# Altium footprint library KF2EDGK5.0.PcbLib: 29 footprints (part 1 of 2)
Each footprint in its own frame and in the unit in brackets; x right, y up, seen from the top. Pads: shape width x height; smd on the part's side, far side on the other; paste and mask are expansions set on the pad; w line width, h text height; cw(c..) or ccw(c..) is an arc to the next point about the centre after c.
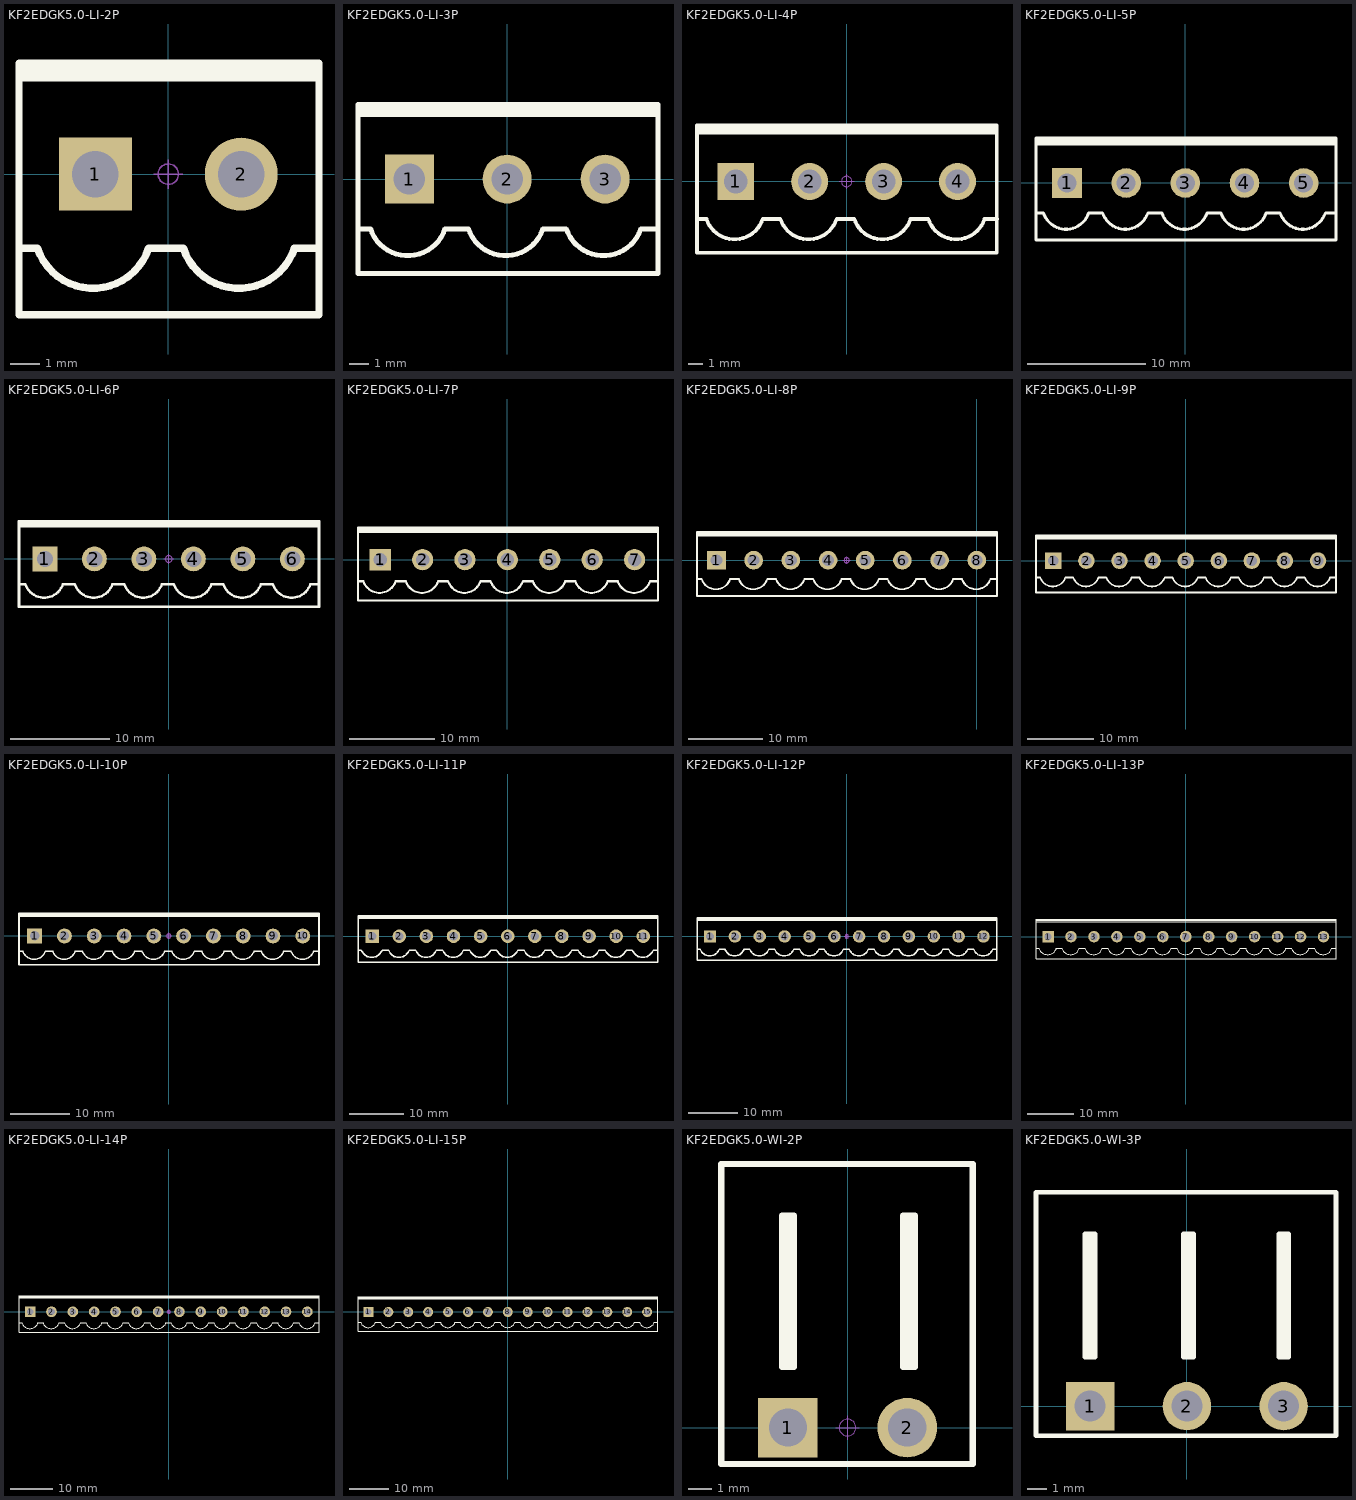
[diagram p0: the footprints below, top view; thin cyan lines are the x and y axes]

## KF2EDGK5.0-LI-2P [mm] "立插端子"
pads (2):
  rect 2.5x2.5 hole 1.6: 1(-2.5,0)
  round 2.5 hole 1.6: 2(2.5,0)
Top Overlay:
  lines w0.254: -5.12,-2.54 -4.485,-2.54 ccw(c-2.58,-1.905) -0.675,-2.54 0.515,-2.54 ccw(c2.42,-1.905) 4.325,-2.54 5.167,-2.54 ; -5.12,3.302 5.167,3.302 ; -5.12,3.556 5.167,3.556 ; -5.12,-4.826 -5.12,3.81 5.167,3.81 5.167,-4.826 -5.12,-4.826
Mechanical 15:
  circle w0.05: c0,0 r0.35
  lines w0.05: -0.5,0 0.5,0 ; 0,-0.5 0,0.5
3D body "KF2EDGK-1P.STEP": height 11.25, standoff -2.95, extent -5.04,-4.75 0.04,3.75
3D body "KF2EDGK-1P.STEP": height 11.25, standoff -2.95, extent -0.04,-4.75 5.04,3.75

## KF2EDGK5.0-LI-3P [mm] "立插端子"
pads (3):
  rect 2.5x2.5 hole 1.6: 1(-5,0)
  round 2.5 hole 1.6: 2(0,0) 3(5,0)
Top Overlay:
  lines w0.254: -7.62,-2.54 -6.985,-2.54 ccw(c-5.08,-1.905) -3.175,-2.54 -1.985,-2.54 ccw(c-0.08,-1.905) 1.825,-2.54 3.015,-2.54 ccw(c4.92,-1.905) 6.825,-2.54 7.667,-2.54 ; -7.62,3.302 7.7,3.302 ; -7.62,3.556 7.7,3.556 ; -7.62,-4.826 7.7,-4.826 7.7,3.81 -7.62,3.81 -7.62,-4.826
Mechanical 15:
  circle w0.05: c0,0 r0.35
  lines w0.05: -0.5,0 0.5,0 ; 0,-0.5 0,0.5
3D body "KF2EDGK-1P.STEP": height 11.25, standoff -2.95, extent -7.54,-4.75 -2.46,3.75
3D body "KF2EDGK-1P.STEP": height 11.25, standoff -2.95, extent -2.54,-4.75 2.54,3.75
3D body "KF2EDGK-1P.STEP": height 11.25, standoff -2.95, extent 2.46,-4.75 7.54,3.75

## KF2EDGK5.0-LI-4P [mm] "立插端子"
pads (4):
  rect 2.5x2.5 hole 1.6: 1(-7.5,0)
  round 2.5 hole 1.6: 2(-2.5,0) 3(2.5,0) 4(7.5,0)
Top Overlay:
  lines w0.254: -10.12,-2.54 -9.485,-2.54 ccw(c-7.58,-1.905) -5.675,-2.54 -4.485,-2.54 ccw(c-2.58,-1.905) -0.675,-2.54 0.515,-2.54 ccw(c2.42,-1.905) 4.325,-2.54 5.515,-2.54 ccw(c7.42,-1.905) 9.325,-2.54 10.167,-2.54 ; -10.12,3.302 10.153,3.302 ; -10.12,3.556 10.153,3.556 ; -10.12,-4.826 -10.12,3.81 10.153,3.81 10.153,-4.826 -10.12,-4.826
Mechanical 15:
  circle w0.05: c0,0 r0.35
  lines w0.05: -0.5,0 0.5,0 ; 0,-0.5 0,0.5
3D body "KF2EDGK-1P.STEP": height 11.25, standoff -2.95, extent 4.96,-4.75 10.04,3.75
3D body "KF2EDGK-1P.STEP": height 11.25, standoff -2.95, extent -0.04,-4.75 5.04,3.75
3D body "KF2EDGK-1P.STEP": height 11.25, standoff -2.95, extent -5.04,-4.75 0.04,3.75
3D body "KF2EDGK-1P.STEP": height 11.25, standoff -2.95, extent -10.04,-4.75 -4.96,3.75

## KF2EDGK5.0-LI-5P [mm] "立插端子"
pads (5):
  rect 2.5x2.5 hole 1.6: 1(-10,0)
  round 2.5 hole 1.6: 2(-5,0) 3(0,0) 4(5,0) 5(10,0)
Top Overlay:
  lines w0.254: -12.62,-2.54 -11.985,-2.54 ccw(c-10.08,-1.905) -8.175,-2.54 -6.985,-2.54 ccw(c-5.08,-1.905) -3.175,-2.54 -1.985,-2.54 ccw(c-0.08,-1.905) 1.825,-2.54 3.015,-2.54 ccw(c4.92,-1.905) 6.825,-2.54 8.015,-2.54 ccw(c9.92,-1.905) 11.825,-2.54 12.667,-2.54 ; -12.62,3.302 12.606,3.302 ; -12.62,3.556 12.733,3.556 ; -12.62,-4.826 12.733,-4.826 12.733,3.81 -12.62,3.81 -12.62,-4.826
Mechanical 15:
  circle w0.05: c0,0 r0.35
  lines w0.05: -0.5,0 0.5,0 ; 0,-0.5 0,0.5
3D body "KF2EDGK-1P.STEP": height 11.25, standoff -2.95, extent 7.46,-4.75 12.54,3.75
3D body "KF2EDGK-1P.STEP": height 11.25, standoff -2.95, extent 2.46,-4.75 7.54,3.75
3D body "KF2EDGK-1P.STEP": height 11.25, standoff -2.95, extent -2.54,-4.75 2.54,3.75
3D body "KF2EDGK-1P.STEP": height 11.25, standoff -2.95, extent -7.54,-4.75 -2.46,3.75
3D body "KF2EDGK-1P.STEP": height 11.25, standoff -2.95, extent -12.54,-4.75 -7.46,3.75

## KF2EDGK5.0-LI-6P [mm] "立插端子"
pads (6):
  rect 2.5x2.5 hole 1.6: 1(-12.5,0)
  round 2.5 hole 1.6: 2(-7.5,0) 3(-2.5,0) 4(2.5,0) 5(7.5,0) 6(12.5,0)
Top Overlay:
  lines w0.254: -15.12,-2.54 -14.485,-2.54 ccw(c-12.58,-1.905) -10.675,-2.54 -9.485,-2.54 ccw(c-7.58,-1.905) -5.675,-2.54 ; -15.12,3.302 15.186,3.302 ; -15.12,3.556 15.186,3.556 ; -5.675,-2.54 -4.485,-2.54 ccw(c-2.58,-1.905) -0.675,-2.54 0.515,-2.54 ccw(c2.42,-1.905) 4.325,-2.54 5.515,-2.54 ccw(c7.42,-1.905) 9.325,-2.54 10.515,-2.54 ccw(c12.42,-1.905) 14.325,-2.54 15.167,-2.54 ; -15.12,-4.826 -15.12,3.81 15.186,3.81 15.186,-4.826 -15.12,-4.826
Mechanical 15:
  circle w0.05: c0,0 r0.35
  lines w0.05: -0.5,0 0.5,0 ; 0,-0.5 0,0.5
3D body "KF2EDGK-1P.STEP": height 11.25, standoff -2.95, extent 9.96,-4.75 15.04,3.75
3D body "KF2EDGK-1P.STEP": height 11.25, standoff -2.95, extent 4.96,-4.75 10.04,3.75
3D body "KF2EDGK-1P.STEP": height 11.25, standoff -2.95, extent -0.04,-4.75 5.04,3.75
3D body "KF2EDGK-1P.STEP": height 11.25, standoff -2.95, extent -5.04,-4.75 0.04,3.75
3D body "KF2EDGK-1P.STEP": height 11.25, standoff -2.95, extent -10.04,-4.75 -4.96,3.75
3D body "KF2EDGK-1P.STEP": height 11.25, standoff -2.95, extent -15.04,-4.75 -9.96,3.75

## KF2EDGK5.0-LI-7P [mm] "立插端子"
pads (7):
  rect 2.5x2.5 hole 1.6: 1(-15,0)
  round 2.5 hole 1.6: 2(-10,0) 3(-5,0) 4(0,0) 5(5,0) 6(10,0) 7(15,0)
Top Overlay:
  lines w0.254: -17.62,-2.54 -16.985,-2.54 ccw(c-15.08,-1.905) -13.175,-2.54 -11.985,-2.54 ccw(c-10.08,-1.905) -8.175,-2.54 -6.985,-2.54 ccw(c-5.08,-1.905) -3.175,-2.54 -1.985,-2.54 ccw(c-0.08,-1.905) 1.825,-2.54 3.015,-2.54 ccw(c4.92,-1.905) 6.825,-2.54 8.015,-2.54 ccw(c9.92,-1.905) 11.825,-2.54 13.015,-2.54 ccw(c14.92,-1.905) 16.825,-2.54 17.667,-2.54 ; -17.62,3.302 17.766,3.302 ; -17.62,3.556 17.766,3.556 ; -17.62,-4.826 -17.62,3.81 17.766,3.81 17.766,-4.826 -17.62,-4.826
Mechanical 15:
  circle w0.05: c0,0 r0.35
  lines w0.05: -0.5,0 0.5,0 ; 0,-0.5 0,0.5
3D body "KF2EDGK-1P.STEP": height 11.25, standoff -2.95, extent -17.54,-4.75 -12.46,3.75
3D body "KF2EDGK-1P.STEP": height 11.25, standoff -2.95, extent -7.54,-4.75 -2.46,3.75
3D body "KF2EDGK-1P.STEP": height 11.25, standoff -2.95, extent -12.54,-4.75 -7.46,3.75
3D body "KF2EDGK-1P.STEP": height 11.25, standoff -2.95, extent -2.54,-4.75 2.54,3.75
3D body "KF2EDGK-1P.STEP": height 11.25, standoff -2.95, extent 2.46,-4.75 7.54,3.75
3D body "KF2EDGK-1P.STEP": height 11.25, standoff -2.95, extent 7.46,-4.75 12.54,3.75
3D body "KF2EDGK-1P.STEP": height 11.25, standoff -2.95, extent 12.46,-4.75 17.54,3.75

## KF2EDGK5.0-LI-8P [mm] "立插端子"
pads (8):
  rect 2.5x2.5 hole 1.6: 1(-35,0)
  round 2.5 hole 1.6: 2(-30,0) 3(-25,0) 4(-20,0) 5(-15,0) 6(-10,0) 7(-5,0) 8(0,0)
Top Overlay:
  lines w0.254: -37.62,-2.54 -36.985,-2.54 ccw(c-35.08,-1.905) -33.175,-2.54 -31.985,-2.54 ccw(c-30.08,-1.905) -28.175,-2.54 -26.985,-2.54 ccw(c-25.08,-1.905) -23.175,-2.54 -21.985,-2.54 ccw(c-20.08,-1.905) -18.175,-2.54 -16.985,-2.54 ccw(c-15.08,-1.905) -13.175,-2.54 -11.985,-2.54 ccw(c-10.08,-1.905) -8.175,-2.54 -6.985,-2.54 ccw(c-5.08,-1.905) -3.175,-2.54 -1.985,-2.54 ccw(c-0.08,-1.905) 1.825,-2.54 2.667,-2.54 ; -37.62,3.302 2.592,3.302 ; -37.62,3.556 2.719,3.556 ; -37.62,-4.826 2.719,-4.826 2.719,3.81 -37.62,3.81 -37.62,-4.826
Mechanical 15:
  circle w0.05: c-17.5,0 r0.35
  lines w0.05: -18,0 -17,0 ; -17.5,-0.5 -17.5,0.5
3D body "KF2EDGK-1P.STEP": height 11.25, standoff -2.95, extent -2.54,-4.75 2.54,3.75
3D body "KF2EDGK-1P.STEP": height 11.25, standoff -2.95, extent -7.54,-4.75 -2.46,3.75
3D body "KF2EDGK-1P.STEP": height 11.25, standoff -2.95, extent -12.54,-4.75 -7.46,3.75
3D body "KF2EDGK-1P.STEP": height 11.25, standoff -2.95, extent -17.54,-4.75 -12.46,3.75
3D body "KF2EDGK-1P.STEP": height 11.25, standoff -2.95, extent -22.54,-4.75 -17.46,3.75
3D body "KF2EDGK-1P.STEP": height 11.25, standoff -2.95, extent -27.54,-4.75 -22.46,3.75
3D body "KF2EDGK-1P.STEP": height 11.25, standoff -2.95, extent -32.54,-4.75 -27.46,3.75
3D body "KF2EDGK-1P.STEP": height 11.25, standoff -2.95, extent -37.54,-4.75 -32.46,3.75

## KF2EDGK5.0-LI-9P [mm] "立插端子"
pads (9):
  rect 2.5x2.5 hole 1.6: 1(-20,0)
  round 2.5 hole 1.6: 2(-15,0) 3(-10,0) 4(-5,0) 5(0,0) 6(5,0) 7(10,0) 8(15,0) 9(20,0)
Top Overlay:
  lines w0.254: -22.62,-2.54 -21.985,-2.54 ccw(c-20.08,-1.905) -18.175,-2.54 -16.985,-2.54 ccw(c-15.08,-1.905) -13.175,-2.54 -11.985,-2.54 ccw(c-10.08,-1.905) -8.175,-2.54 -6.985,-2.54 ccw(c-5.08,-1.905) -3.175,-2.54 -1.985,-2.54 ccw(c-0.08,-1.905) 1.825,-2.54 3.015,-2.54 ccw(c4.92,-1.905) 6.825,-2.54 8.015,-2.54 ccw(c9.92,-1.905) 11.825,-2.54 13.015,-2.54 ccw(c14.92,-1.905) 16.825,-2.54 ; -22.62,3.302 17.592,3.302 ; -22.62,3.556 17.719,3.556 ; 17.413,3.302 22.719,3.302 ; 17.5,3.556 22.719,3.556 ; 17.5,3.81 22.719,3.81 22.719,-4.826 17.719,-4.826 -22.62,-4.826 -22.62,3.81 17.719,3.81 ; 17.667,-2.54 16.825,-2.54 ; 22.667,-2.54 21.825,-2.54 cw(c19.92,-1.905) 18.015,-2.54 16.825,-2.54
Mechanical 15:
  circle w0.05: c0,0 r0.35
  lines w0.05: -0.5,0 0.5,0 ; 0,-0.5 0,0.5
3D body "KF2EDGK-1P.STEP": height 11.25, standoff -2.95, extent 17.46,-4.75 22.54,3.75
3D body "KF2EDGK-1P.STEP": height 11.25, standoff -2.95, extent 12.46,-4.75 17.54,3.75
3D body "KF2EDGK-1P.STEP": height 11.25, standoff -2.95, extent 7.46,-4.75 12.54,3.75
3D body "KF2EDGK-1P.STEP": height 11.25, standoff -2.95, extent 2.46,-4.75 7.54,3.75
3D body "KF2EDGK-1P.STEP": height 11.25, standoff -2.95, extent -2.54,-4.75 2.54,3.75
3D body "KF2EDGK-1P.STEP": height 11.25, standoff -2.95, extent -7.54,-4.75 -2.46,3.75
3D body "KF2EDGK-1P.STEP": height 11.25, standoff -2.95, extent -12.54,-4.75 -7.46,3.75
3D body "KF2EDGK-1P.STEP": height 11.25, standoff -2.95, extent -17.54,-4.75 -12.46,3.75
3D body "KF2EDGK-1P.STEP": height 11.25, standoff -2.95, extent -22.54,-4.75 -17.46,3.75

## KF2EDGK5.0-LI-10P [mm] "立插端子"
pads (10):
  rect 2.5x2.5 hole 1.6: 1(-22.5,0)
  round 2.5 hole 1.6: 2(-17.5,0) 3(-12.5,0) 4(-7.5,0) 5(-2.5,0) 6(2.5,0) 7(7.5,0) 8(12.5,0) 9(17.5,0) 10(22.5,0)
Top Overlay:
  lines w0.254: -25.12,-2.54 -24.485,-2.54 ccw(c-22.58,-1.905) -20.675,-2.54 -19.485,-2.54 ccw(c-17.58,-1.905) -15.675,-2.54 -14.485,-2.54 ccw(c-12.58,-1.905) -10.675,-2.54 -9.485,-2.54 ccw(c-7.58,-1.905) -5.675,-2.54 ; -25.12,3.302 15.092,3.302 ; -25.12,3.556 15.219,3.556 ; -5.675,-2.54 -4.485,-2.54 ccw(c-2.58,-1.905) -0.675,-2.54 0.515,-2.54 ccw(c2.42,-1.905) 4.325,-2.54 5.515,-2.54 ccw(c7.42,-1.905) 9.325,-2.54 10.515,-2.54 ccw(c12.42,-1.905) 14.325,-2.54 ; 14.913,3.302 20.219,3.302 ; 15,3.556 20.219,3.556 ; 15,3.81 20.219,3.81 ; 15.167,-2.54 14.325,-2.54 ; 15.219,3.81 -25.12,3.81 -25.12,-4.826 15.219,-4.826 20.219,-4.826 25.219,-4.826 25.219,3.81 20,3.81 ; 19.913,3.302 25.219,3.302 ; 20,3.556 25.219,3.556 ; 25.167,-2.54 24.325,-2.54 cw(c22.42,-1.905) 20.515,-2.54 19.325,-2.54 ; 14.325,-2.54 15.515,-2.54 ccw(c17.42,-1.905) 19.325,-2.54 ; 19.325,-2.54 20.167,-2.54 19.325,-2.54
Mechanical 15:
  circle w0.05: c0,0 r0.35
  lines w0.05: -0.5,0 0.5,0 ; 0,-0.5 0,0.5
3D body "KF2EDGK-1P.STEP": height 11.25, standoff -2.95, extent 19.96,-4.75 25.04,3.75
3D body "KF2EDGK-1P.STEP": height 11.25, standoff -2.95, extent -25.04,-4.75 -19.96,3.75
3D body "KF2EDGK-1P.STEP": height 11.25, standoff -2.95, extent -20.04,-4.75 -14.96,3.75
3D body "KF2EDGK-1P.STEP": height 11.25, standoff -2.95, extent -15.04,-4.75 -9.96,3.75
3D body "KF2EDGK-1P.STEP": height 11.25, standoff -2.95, extent -10.04,-4.75 -4.96,3.75
3D body "KF2EDGK-1P.STEP": height 11.25, standoff -2.95, extent -5.04,-4.75 0.04,3.75
3D body "KF2EDGK-1P.STEP": height 11.25, standoff -2.95, extent -0.04,-4.75 5.04,3.75
3D body "KF2EDGK-1P.STEP": height 11.25, standoff -2.95, extent 4.96,-4.75 10.04,3.75
3D body "KF2EDGK-1P.STEP": height 11.25, standoff -2.95, extent 9.96,-4.75 15.04,3.75
3D body "KF2EDGK-1P.STEP": height 11.25, standoff -2.95, extent 14.96,-4.75 20.04,3.75

## KF2EDGK5.0-LI-11P [mm] "立插端子"
pads (11):
  rect 2.5x2.5 hole 1.6: 1(-25,0)
  round 2.5 hole 1.6: 2(-20,0) 3(-15,0) 4(-10,0) 5(-5,0) 6(0,0) 7(5,0) 8(10,0) 9(15,0) 10(20,0) 11(25,0)
Top Overlay:
  lines w0.254: -27.62,-2.54 -26.985,-2.54 ccw(c-25.08,-1.905) -23.175,-2.54 -21.985,-2.54 ccw(c-20.08,-1.905) -18.175,-2.54 -16.985,-2.54 ccw(c-15.08,-1.905) -13.175,-2.54 -11.985,-2.54 ccw(c-10.08,-1.905) -8.175,-2.54 -6.985,-2.54 ccw(c-5.08,-1.905) -3.175,-2.54 -1.985,-2.54 ccw(c-0.08,-1.905) 1.825,-2.54 3.015,-2.54 ccw(c4.92,-1.905) 6.825,-2.54 8.015,-2.54 ccw(c9.92,-1.905) 11.825,-2.54 ; -27.62,3.302 12.592,3.302 ; -27.62,3.556 12.719,3.556 ; 12.413,3.302 17.719,3.302 ; 12.5,3.556 17.719,3.556 ; 12.5,3.81 17.719,3.81 ; 12.667,-2.54 11.825,-2.54 ; 12.719,3.81 -27.62,3.81 -27.62,-4.826 12.719,-4.826 17.719,-4.826 22.719,-4.826 27.719,-4.826 27.719,3.81 22.5,3.81 ; 17.413,3.302 22.719,3.302 ; 17.5,3.556 22.719,3.556 ; 17.5,3.81 22.719,3.81 ; 22.413,3.302 27.719,3.302 ; 22.5,3.556 27.719,3.556 ; 27.667,-2.54 26.825,-2.54 cw(c24.92,-1.905) 23.015,-2.54 21.825,-2.54 ; 11.825,-2.54 13.015,-2.54 ccw(c14.92,-1.905) 16.825,-2.54 ; 16.825,-2.54 17.667,-2.54 16.825,-2.54 ; 16.825,-2.54 18.015,-2.54 ccw(c19.92,-1.905) 21.825,-2.54 ; 21.825,-2.54 22.667,-2.54 ; 21.825,-2.54 22.667,-2.54 ; 21.825,-2.54 22.667,-2.54
Mechanical 15:
  circle w0.05: c0,0 r0.35
  lines w0.05: -0.5,0 0.5,0 ; 0,-0.5 0,0.5
3D body "KF2EDGK-1P.STEP": height 11.25, standoff -2.95, extent 22.46,-4.75 27.54,3.75
3D body "KF2EDGK-1P.STEP": height 11.25, standoff -2.95, extent 12.46,-4.75 17.54,3.75
3D body "KF2EDGK-1P.STEP": height 11.25, standoff -2.95, extent 7.46,-4.75 12.54,3.75
3D body "KF2EDGK-1P.STEP": height 11.25, standoff -2.95, extent 2.46,-4.75 7.54,3.75
3D body "KF2EDGK-1P.STEP": height 11.25, standoff -2.95, extent -2.54,-4.75 2.54,3.75
3D body "KF2EDGK-1P.STEP": height 11.25, standoff -2.95, extent -7.54,-4.75 -2.46,3.75
3D body "KF2EDGK-1P.STEP": height 11.25, standoff -2.95, extent -12.54,-4.75 -7.46,3.75
3D body "KF2EDGK-1P.STEP": height 11.25, standoff -2.95, extent -17.54,-4.75 -12.46,3.75
3D body "KF2EDGK-1P.STEP": height 11.25, standoff -2.95, extent -22.54,-4.75 -17.46,3.75
3D body "KF2EDGK-1P.STEP": height 11.25, standoff -2.95, extent -27.54,-4.75 -22.46,3.75
3D body "KF2EDGK-1P.STEP": height 11.25, standoff -2.95, extent 17.46,-4.75 22.54,3.75

## KF2EDGK5.0-LI-12P [mm] "立插端子"
pads (12):
  rect 2.5x2.5 hole 1.6: 1(-27.5,0)
  round 2.5 hole 1.6: 2(-22.5,0) 3(-17.5,0) 4(-12.5,0) 5(-7.5,0) 6(-2.5,0) 7(2.5,0) 8(7.5,0) 9(12.5,0) 10(17.5,0) 11(22.5,0) 12(27.5,0)
Top Overlay:
  lines w0.254: -30.12,-2.54 -29.485,-2.54 ccw(c-27.58,-1.905) -25.675,-2.54 -24.485,-2.54 ccw(c-22.58,-1.905) -20.675,-2.54 -19.485,-2.54 ccw(c-17.58,-1.905) -15.675,-2.54 -14.485,-2.54 ccw(c-12.58,-1.905) -10.675,-2.54 -9.485,-2.54 ccw(c-7.58,-1.905) -5.675,-2.54 ; -30.12,3.302 10.092,3.302 ; -30.12,3.556 10.219,3.556 ; -5.675,-2.54 -4.485,-2.54 ccw(c-2.58,-1.905) -0.675,-2.54 0.515,-2.54 ccw(c2.42,-1.905) 4.325,-2.54 5.515,-2.54 ccw(c7.42,-1.905) 9.325,-2.54 ; 9.913,3.302 15.219,3.302 ; 10,3.556 15.219,3.556 ; 10,3.81 15.219,3.81 ; 10.167,-2.54 9.325,-2.54 ; 10.219,3.81 -30.12,3.81 -30.12,-4.826 10.219,-4.826 15.219,-4.826 20.219,-4.826 25.219,-4.826 30.219,-4.826 30.219,3.81 25,3.81 ; 14.913,3.302 20.219,3.302 ; 15,3.556 20.219,3.556 ; 15,3.81 20.219,3.81 ; 19.913,3.302 25.219,3.302 ; 20,3.556 25.219,3.556 ; 20,3.81 25.219,3.81 ; 24.913,3.302 30.219,3.302 ; 25,3.556 30.219,3.556 ; 30.167,-2.54 29.325,-2.54 cw(c27.42,-1.905) 25.515,-2.54 24.325,-2.54 ; 9.325,-2.54 10.515,-2.54 ccw(c12.42,-1.905) 14.325,-2.54 ; 14.325,-2.54 15.515,-2.54 ccw(c17.42,-1.905) 19.325,-2.54 ; 14.325,-2.54 15.167,-2.54 14.325,-2.54 ; 19.325,-2.54 20.515,-2.54 ccw(c22.42,-1.905) 24.325,-2.54 ; 19.325,-2.54 20.167,-2.54 19.325,-2.54 ; 24.325,-2.54 25.167,-2.54 24.325,-2.54
Mechanical 15:
  circle w0.05: c0,0 r0.35
  lines w0.05: -0.5,0 0.5,0 ; 0,-0.5 0,0.5
3D body "KF2EDGK-1P.STEP": height 11.25, standoff -2.95, extent 24.96,-4.75 30.04,3.75
3D body "KF2EDGK-1P.STEP": height 11.25, standoff -2.95, extent 19.96,-4.75 25.04,3.75
3D body "KF2EDGK-1P.STEP": height 11.25, standoff -2.95, extent 14.96,-4.75 20.04,3.75
3D body "KF2EDGK-1P.STEP": height 11.25, standoff -2.95, extent 9.96,-4.75 15.04,3.75
3D body "KF2EDGK-1P.STEP": height 11.25, standoff -2.95, extent 4.96,-4.75 10.04,3.75
3D body "KF2EDGK-1P.STEP": height 11.25, standoff -2.95, extent -0.04,-4.75 5.04,3.75
3D body "KF2EDGK-1P.STEP": height 11.25, standoff -2.95, extent -5.04,-4.75 0.04,3.75
3D body "KF2EDGK-1P.STEP": height 11.25, standoff -2.95, extent -10.04,-4.75 -4.96,3.75
3D body "KF2EDGK-1P.STEP": height 11.25, standoff -2.95, extent -15.04,-4.75 -9.96,3.75
3D body "KF2EDGK-1P.STEP": height 11.25, standoff -2.95, extent -20.04,-4.75 -14.96,3.75
3D body "KF2EDGK-1P.STEP": height 11.25, standoff -2.95, extent -25.04,-4.75 -19.96,3.75
3D body "KF2EDGK-1P.STEP": height 11.25, standoff -2.95, extent -30.04,-4.75 -24.96,3.75

## KF2EDGK5.0-LI-13P [mm] "立插端子"
pads (13):
  rect 2.5x2.5 hole 1.6: 1(-30,0)
  round 2.5 hole 1.6: 2(-25,0) 3(-20,0) 4(-15,0) 5(-10,0) 6(-5,0) 7(0,0) 8(5,0) 9(10,0) 10(15,0) 11(20,0) 12(25,0) 13(30,0)
Top Overlay:
  lines w0.254: -32.62,-2.54 -31.985,-2.54 ccw(c-30.08,-1.905) -28.175,-2.54 -26.985,-2.54 ccw(c-25.08,-1.905) -23.175,-2.54 -21.985,-2.54 ccw(c-20.08,-1.905) -18.175,-2.54 -16.985,-2.54 ccw(c-15.08,-1.905) -13.175,-2.54 -11.985,-2.54 ccw(c-10.08,-1.905) -8.175,-2.54 -6.985,-2.54 ccw(c-5.08,-1.905) -3.175,-2.54 -1.985,-2.54 ccw(c-0.08,-1.905) 1.825,-2.54 3.015,-2.54 ccw(c4.92,-1.905) 6.825,-2.54 ; -32.62,3.302 7.592,3.302 ; -32.62,3.556 7.719,3.556 ; 7.413,3.302 12.719,3.302 ; 7.5,3.556 12.719,3.556 ; 7.5,3.81 12.719,3.81 ; 7.667,-2.54 6.825,-2.54 ; 7.719,3.81 -32.62,3.81 -32.62,-4.826 7.719,-4.826 12.719,-4.826 17.719,-4.826 22.719,-4.826 27.719,-4.826 32.719,-4.826 32.719,3.81 27.5,3.81 ; 12.413,3.302 17.719,3.302 ; 12.5,3.556 17.719,3.556 ; 12.5,3.81 17.719,3.81 ; 17.413,3.302 22.719,3.302 ; 17.5,3.556 22.719,3.556 ; 17.5,3.81 22.719,3.81 ; 22.413,3.302 27.719,3.302 ; 22.5,3.556 27.719,3.556 ; 22.5,3.81 27.719,3.81 ; 27.413,3.302 32.719,3.302 ; 27.5,3.556 32.719,3.556 ; 32.667,-2.54 31.825,-2.54 cw(c29.92,-1.905) 28.015,-2.54 26.825,-2.54 ; 6.825,-2.54 8.015,-2.54 ccw(c9.92,-1.905) 11.825,-2.54 ; 11.825,-2.54 13.015,-2.54 ccw(c14.92,-1.905) 16.825,-2.54 ; 11.825,-2.54 12.667,-2.54 11.825,-2.54 ; 16.825,-2.54 18.015,-2.54 ccw(c19.92,-1.905) 21.825,-2.54 ; 16.825,-2.54 17.667,-2.54 16.825,-2.54 ; 21.825,-2.54 23.015,-2.54 ccw(c24.92,-1.905) 26.825,-2.54 ; 21.825,-2.54 22.667,-2.54 21.825,-2.54 ; 26.825,-2.54 27.667,-2.54 26.825,-2.54
Mechanical 15:
  circle w0.05: c0,0 r0.35
  lines w0.05: -0.5,0 0.5,0 ; 0,-0.5 0,0.5
3D body "KF2EDGK-1P.STEP": height 11.25, standoff -2.95, extent 27.46,-4.75 32.54,3.75
3D body "KF2EDGK-1P.STEP": height 11.25, standoff -2.95, extent 22.46,-4.75 27.54,3.75
3D body "KF2EDGK-1P.STEP": height 11.25, standoff -2.95, extent 17.46,-4.75 22.54,3.75
3D body "KF2EDGK-1P.STEP": height 11.25, standoff -2.95, extent 12.46,-4.75 17.54,3.75
3D body "KF2EDGK-1P.STEP": height 11.25, standoff -2.95, extent 7.46,-4.75 12.54,3.75
3D body "KF2EDGK-1P.STEP": height 11.25, standoff -2.95, extent 2.46,-4.75 7.54,3.75
3D body "KF2EDGK-1P.STEP": height 11.25, standoff -2.95, extent -2.54,-4.75 2.54,3.75
3D body "KF2EDGK-1P.STEP": height 11.25, standoff -2.95, extent -7.54,-4.75 -2.46,3.75
3D body "KF2EDGK-1P.STEP": height 11.25, standoff -2.95, extent -12.54,-4.75 -7.46,3.75
3D body "KF2EDGK-1P.STEP": height 11.25, standoff -2.95, extent -17.54,-4.75 -12.46,3.75
3D body "KF2EDGK-1P.STEP": height 11.25, standoff -2.95, extent -22.54,-4.75 -17.46,3.75
3D body "KF2EDGK-1P.STEP": height 11.25, standoff -2.95, extent -27.54,-4.75 -22.46,3.75
3D body "KF2EDGK-1P.STEP": height 11.25, standoff -2.95, extent -32.54,-4.75 -27.46,3.75

## KF2EDGK5.0-LI-14P [mm] "立插端子"
pads (14):
  rect 2.5x2.5 hole 1.6: 1(-32.5,0)
  round 2.5 hole 1.6: 2(-27.5,0) 3(-22.5,0) 4(-17.5,0) 5(-12.5,0) 6(-7.5,0) 7(-2.5,0) 8(2.5,0) 9(7.5,0) 10(12.5,0) 11(17.5,0) 12(22.5,0) 13(27.5,0) 14(32.5,0)
Top Overlay:
  lines w0.254: -35.12,-2.54 -34.485,-2.54 ccw(c-32.58,-1.905) -30.675,-2.54 -29.485,-2.54 ccw(c-27.58,-1.905) -25.675,-2.54 -24.485,-2.54 ccw(c-22.58,-1.905) -20.675,-2.54 -19.485,-2.54 ccw(c-17.58,-1.905) -15.675,-2.54 -14.485,-2.54 ccw(c-12.58,-1.905) -10.675,-2.54 -9.485,-2.54 ccw(c-7.58,-1.905) -5.675,-2.54 ; -35.12,3.302 5.092,3.302 ; -35.12,3.556 5.219,3.556 ; -5.675,-2.54 -4.485,-2.54 ccw(c-2.58,-1.905) -0.675,-2.54 0.515,-2.54 ccw(c2.42,-1.905) 4.325,-2.54 ; 4.913,3.302 10.219,3.302 ; 5,3.556 10.219,3.556 ; 5,3.81 10.219,3.81 ; 5.167,-2.54 4.325,-2.54 ; 5.219,3.81 -35.12,3.81 -35.12,-4.826 5.219,-4.826 10.219,-4.826 15.219,-4.826 20.219,-4.826 25.219,-4.826 30.219,-4.826 35.219,-4.826 35.219,3.81 30,3.81 ; 9.913,3.302 15.219,3.302 ; 10,3.556 15.219,3.556 ; 10,3.81 15.219,3.81 ; 14.913,3.302 20.219,3.302 ; 15,3.556 20.219,3.556 ; 15,3.81 20.219,3.81 ; 19.913,3.302 25.219,3.302 ; 20,3.556 25.219,3.556 ; 20,3.81 25.219,3.81 ; 24.913,3.302 30.219,3.302 ; 25,3.556 30.219,3.556 ; 25,3.81 30.219,3.81 ; 29.913,3.302 35.219,3.302 ; 30,3.556 35.219,3.556 ; 4.325,-2.54 5.515,-2.54 ccw(c7.42,-1.905) 9.325,-2.54 ; 9.325,-2.54 10.167,-2.54 9.325,-2.54 ; 9.325,-2.54 10.515,-2.54 ccw(c12.42,-1.905) 14.325,-2.54 ; 14.325,-2.54 15.167,-2.54 14.325,-2.54 ; 14.325,-2.54 15.515,-2.54 ccw(c17.42,-1.905) 19.325,-2.54 ; 19.325,-2.54 20.167,-2.54 19.325,-2.54 ; 19.325,-2.54 20.515,-2.54 ccw(c22.42,-1.905) 24.325,-2.54 ; 24.325,-2.54 25.167,-2.54 24.325,-2.54 ; 24.325,-2.54 25.515,-2.54 ccw(c27.42,-1.905) 29.325,-2.54 ; 29.325,-2.54 30.167,-2.54 29.325,-2.54 ; 29.325,-2.54 30.515,-2.54 ccw(c32.42,-1.905) 34.325,-2.54 ; 34.325,-2.54 35.167,-2.54 34.325,-2.54
Mechanical 15:
  circle w0.05: c0,0 r0.35
  lines w0.05: -0.5,0 0.5,0 ; 0,-0.5 0,0.5
3D body "KF2EDGK-1P.STEP": height 11.25, standoff -2.95, extent 4.96,-4.75 10.04,3.75
3D body "KF2EDGK-1P.STEP": height 11.25, standoff -2.95, extent -0.04,-4.75 5.04,3.75
3D body "KF2EDGK-1P.STEP": height 11.25, standoff -2.95, extent -5.04,-4.75 0.04,3.75
3D body "KF2EDGK-1P.STEP": height 11.25, standoff -2.95, extent -10.04,-4.75 -4.96,3.75
3D body "KF2EDGK-1P.STEP": height 11.25, standoff -2.95, extent -15.04,-4.75 -9.96,3.75
3D body "KF2EDGK-1P.STEP": height 11.25, standoff -2.95, extent -20.04,-4.75 -14.96,3.75
3D body "KF2EDGK-1P.STEP": height 11.25, standoff -2.95, extent -25.04,-4.75 -19.96,3.75
3D body "KF2EDGK-1P.STEP": height 11.25, standoff -2.95, extent -30.04,-4.75 -24.96,3.75
3D body "KF2EDGK-1P.STEP": height 11.25, standoff -2.95, extent -35.04,-4.75 -29.96,3.75
3D body "KF2EDGK-1P.STEP": height 11.25, standoff -2.95, extent 9.96,-4.75 15.04,3.75
3D body "KF2EDGK-1P.STEP": height 11.25, standoff -2.95, extent 14.96,-4.75 20.04,3.75
3D body "KF2EDGK-1P.STEP": height 11.25, standoff -2.95, extent 19.96,-4.75 25.04,3.75
3D body "KF2EDGK-1P.STEP": height 11.25, standoff -2.95, extent 24.96,-4.75 30.04,3.75
3D body "KF2EDGK-1P.STEP": height 11.25, standoff -2.95, extent 29.96,-4.75 35.04,3.75

## KF2EDGK5.0-LI-15P [mm] "立插端子"
pads (15):
  rect 2.5x2.5 hole 1.6: 1(-35,0)
  round 2.5 hole 1.6: 2(-30,0) 3(-25,0) 4(-20,0) 5(-15,0) 6(-10,0) 7(-5,0) 8(0,0) 9(5,0) 10(10,0) 11(15,0) 12(20,0) 13(25,0) 14(30,0) 15(35,0)
Top Overlay:
  lines w0.254: -37.62,-2.54 -36.985,-2.54 ccw(c-35.08,-1.905) -33.175,-2.54 -31.985,-2.54 ccw(c-30.08,-1.905) -28.175,-2.54 -26.985,-2.54 ccw(c-25.08,-1.905) -23.175,-2.54 -21.985,-2.54 ccw(c-20.08,-1.905) -18.175,-2.54 -16.985,-2.54 ccw(c-15.08,-1.905) -13.175,-2.54 -11.985,-2.54 ccw(c-10.08,-1.905) -8.175,-2.54 -6.985,-2.54 ccw(c-5.08,-1.905) -3.175,-2.54 -1.985,-2.54 ccw(c-0.08,-1.905) 1.825,-2.54 ; -37.62,3.302 2.592,3.302 ; -37.62,3.556 2.719,3.556 ; 2.413,3.302 7.719,3.302 ; 2.5,3.556 7.719,3.556 ; 2.5,3.81 7.719,3.81 ; 2.667,-2.54 1.825,-2.54 ; 2.719,3.81 -37.62,3.81 -37.62,-4.826 2.719,-4.826 7.719,-4.826 12.719,-4.826 17.719,-4.826 22.719,-4.826 27.719,-4.826 32.719,-4.826 37.719,-4.826 37.719,3.81 32.5,3.81 ; 7.413,3.302 12.719,3.302 ; 7.5,3.556 12.719,3.556 ; 7.5,3.81 12.719,3.81 ; 12.413,3.302 17.719,3.302 ; 12.5,3.556 17.719,3.556 ; 12.5,3.81 17.719,3.81 ; 17.413,3.302 22.719,3.302 ; 17.5,3.556 22.719,3.556 ; 17.5,3.81 22.719,3.81 ; 22.413,3.302 27.719,3.302 ; 22.5,3.556 27.719,3.556 ; 22.5,3.81 27.719,3.81 ; 27.413,3.302 32.719,3.302 ; 27.5,3.556 32.719,3.556 ; 27.5,3.81 32.719,3.81 ; 32.413,3.302 37.719,3.302 ; 32.5,3.556 37.719,3.556 ; 37.667,-2.54 36.825,-2.54 cw(c34.92,-1.905) 33.015,-2.54 31.825,-2.54 ; 1.825,-2.54 3.015,-2.54 ccw(c4.92,-1.905) 6.825,-2.54 ; 6.825,-2.54 7.667,-2.54 6.825,-2.54 ; 6.825,-2.54 8.015,-2.54 ccw(c9.92,-1.905) 11.825,-2.54 ; 11.825,-2.54 12.667,-2.54 11.825,-2.54 ; 11.825,-2.54 13.015,-2.54 ccw(c14.92,-1.905) 16.825,-2.54 ; 16.825,-2.54 17.667,-2.54 16.825,-2.54 ; 16.825,-2.54 18.015,-2.54 ccw(c19.92,-1.905) 21.825,-2.54 ; 21.825,-2.54 22.667,-2.54 21.825,-2.54 ; 21.825,-2.54 23.015,-2.54 ccw(c24.92,-1.905) 26.825,-2.54 ; 26.825,-2.54 27.667,-2.54 26.825,-2.54 ; 26.825,-2.54 28.015,-2.54 ccw(c29.92,-1.905) 31.825,-2.54 ; 31.825,-2.54 32.667,-2.54 31.825,-2.54
Mechanical 15:
  circle w0.05: c0,0 r0.35
  lines w0.05: -0.5,0 0.5,0 ; 0,-0.5 0,0.5
3D body "KF2EDGK-1P.STEP": height 11.25, standoff -2.95, extent 2.46,-4.75 7.54,3.75
3D body "KF2EDGK-1P.STEP": height 11.25, standoff -2.95, extent -2.54,-4.75 2.54,3.75
3D body "KF2EDGK-1P.STEP": height 11.25, standoff -2.95, extent -7.54,-4.75 -2.46,3.75
3D body "KF2EDGK-1P.STEP": height 11.25, standoff -2.95, extent -12.54,-4.75 -7.46,3.75
3D body "KF2EDGK-1P.STEP": height 11.25, standoff -2.95, extent -17.54,-4.75 -12.46,3.75
3D body "KF2EDGK-1P.STEP": height 11.25, standoff -2.95, extent -22.54,-4.75 -17.46,3.75
3D body "KF2EDGK-1P.STEP": height 11.25, standoff -2.95, extent -27.54,-4.75 -22.46,3.75
3D body "KF2EDGK-1P.STEP": height 11.25, standoff -2.95, extent -32.54,-4.75 -27.46,3.75
3D body "KF2EDGK-1P.STEP": height 11.25, standoff -2.95, extent -37.54,-4.75 -32.46,3.75
3D body "KF2EDGK-1P.STEP": height 11.25, standoff -2.95, extent 32.46,-4.75 37.54,3.75
3D body "KF2EDGK-1P.STEP": height 11.25, standoff -2.95, extent 7.46,-4.75 12.54,3.75
3D body "KF2EDGK-1P.STEP": height 11.25, standoff -2.95, extent 12.46,-4.75 17.54,3.75
3D body "KF2EDGK-1P.STEP": height 11.25, standoff -2.95, extent 17.46,-4.75 22.54,3.75
3D body "KF2EDGK-1P.STEP": height 11.25, standoff -2.95, extent 22.46,-4.75 27.54,3.75
3D body "KF2EDGK-1P.STEP": height 11.25, standoff -2.95, extent 27.46,-4.75 32.54,3.75

## KF2EDGK5.0-WI-2P [mm] "卧插端子"
pads (2):
  rect 2.5x2.5 hole 1.6: 1(-2.5,0)
  round 2.5 hole 1.6: 2(2.5,0)
Top Overlay:
  lines w0.254: -2.5,2.54 -2.5,8.89 ; 2.58,2.54 2.58,8.89 ; -2.5,8.89 -2.754,8.89 -2.754,2.54 -2.246,2.54 -2.246,8.89 -2.5,8.89 ; 2.58,8.89 2.326,8.89 2.326,2.54 2.834,2.54 2.834,8.89 2.58,8.89 ; -5.294,-1.524 -5.294,11.049 5.247,11.049 5.247,-1.524 -5.294,-1.524
Mechanical 15:
  circle w0.05: c0,0 r0.35
  lines w0.05: -0.5,0 0.5,0 ; 0,-0.5 0,0.5
3D body "KF2EDGK-1P_H.STEP": height 8.5, standoff -3, extent -5.04,-0.5 0.04,10.8
3D body "KF2EDGK-1P_H.STEP": height 8.5, standoff -3, extent -0.04,-0.5 5.04,10.8

## KF2EDGK5.0-WI-3P [mm] "卧插端子"
pads (3):
  rect 2.5x2.5 hole 1.6: 1(-5,0)
  round 2.5 hole 1.6: 2(0,0) 3(5,0)
Top Overlay:
  lines w0.254: -5,2.54 -5,8.89 ; 0.08,2.54 0.08,8.89 ; 5,2.54 5,8.89 ; -5,8.89 -4.746,8.89 -4.746,2.54 -5.254,2.54 -5.254,8.89 -5,8.89 ; 0.08,8.89 0.334,8.89 0.334,2.54 -0.174,2.54 -0.174,8.89 0.08,8.89 ; 5,8.89 4.746,8.89 4.746,2.54 5.254,2.54 5.254,8.89 5,8.89 ; -7.794,-1.524 7.7,-1.524 7.7,11.049 -7.794,11.049 -7.794,-1.524
Mechanical 15:
  circle w0.05: c0,0 r0.35
  lines w0.05: -0.5,0 0.5,0 ; 0,-0.5 0,0.5
3D body "KF2EDGK-1P_H.STEP": height 8.5, standoff -3, extent -7.54,-0.5 -2.46,10.8
3D body "KF2EDGK-1P_H.STEP": height 8.5, standoff -3, extent -2.54,-0.5 2.54,10.8
3D body "KF2EDGK-1P_H.STEP": height 8.5, standoff -3, extent 2.46,-0.5 7.54,10.8